# Altium schematic symbol library LibMoritz.SchLib: 10 symbols
Pins are listed as number, name and electrical type; pins without a type are passive.

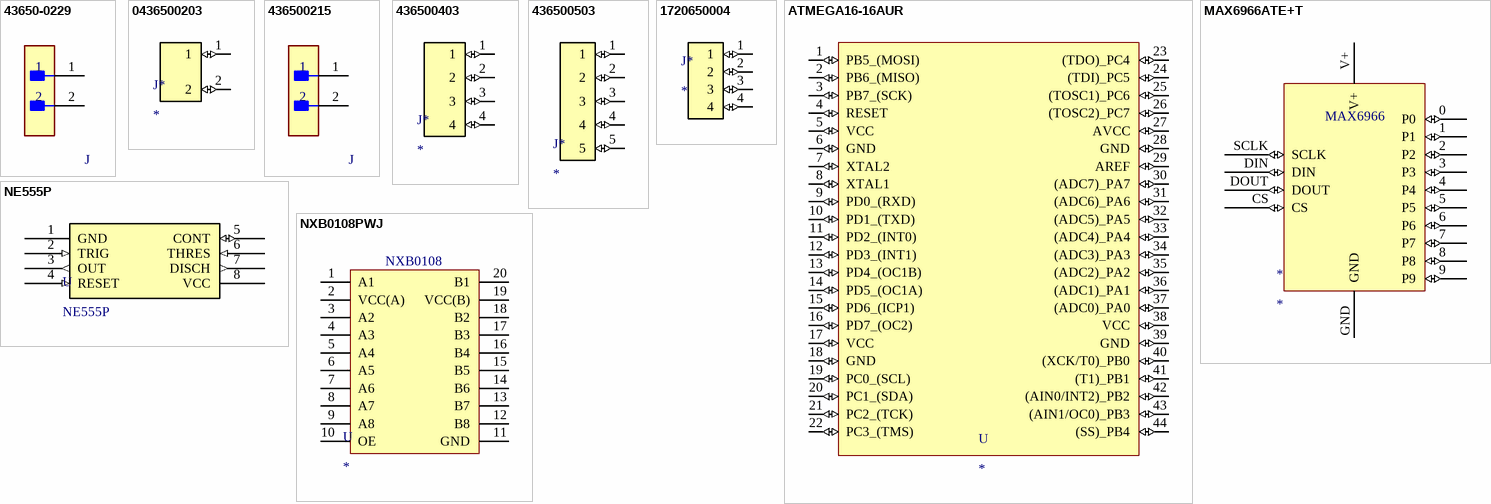
[diagram p0: symbols 43650-0229 to NXB0108PWJ]

## 43650-0229
designator J  (value not drawn)
Micro-Fit 3.0 Vertical Header, 3.00mm Pitch, Single Row, 2 Circuits; ComponentLink1Description: Molex; ComponentLink1URL: https://www.molex.com/molex/products/part-detail/pcb_headers/0436500229
footprint 436500229 (Micro-Fit 3.0 Vertical Header, 3.00mm Pitch, Single Row, 2 Circuits)
pins: 1, 2

## 0436500203
designator J*
Micro-Fit 3.0 Right-Angle Header, 3.00mm Pitch, Single Row, 2 Circuits, with PCB Press-fit Metal Retention Clip, Tin, Glow-Wire Capable, Black; ComponentLink1Description: Molex; ComponentLink1URL: https://www.molex.com/molex/products/part-detail/pcb_headers/0436500203
footprint 0436500203 (Micro-Fit 3.0 Right-Angle Header, 3.00mm Pitch, Single Row, 2 Circuits, with PCB Press-fit Metal Retention Clip, Tin, Glow-Wire Capable, Black)
pins: 1 (io), 2 (io)

## 436500215
designator J  (value not drawn)
Micro-Fit 3.0 Vertical Header, 3.00mm Pitch, Single Row, 2 Circuits
footprint 436500215 (Micro-Fit 3.0 Vertical Header, 3.00mm Pitch, Single Row, 2 Circuits)
pins: 1, 2

## 436500403
designator J*
Micro-Fit 3.0 Right-Angle Header, 3.00mm Pitch, Single Row, 4 Circuits, with PCB Press-fit Metal Retention Clip, Tin, Glow-Wire Capable, Black; ComponentLink1Description: Molex; ComponentLink1URL: https://www.molex.com/molex/products/part-detail/pcb_headers/0436500403
footprint 436500403 (Micro-Fit 3.0 Right-Angle Header, 3.00mm Pitch, Single Row, 4 Circuits, with PCB Press-fit Metal Retention Clip, Tin, Glow-Wire Capable, Black)
pins: 1 (io), 2 (io), 3 (io), 4 (io)

## 436500503
designator J*
Micro-Fit 3.0 Right-Angle Header, 3.00mm Pitch, Single Row, 5 Circuits, with PCB Press-fit Metal Retention Clip, Tin, Glow-Wire Capable, Black; ComponentLink1Description: Molex; ComponentLink1URL: https://www.molex.com/molex/products/part-detail/pcb_headers/0436500503
footprint 436500503 (Micro-Fit 3.0 Right-Angle Header, 3.00mm Pitch, Single Row, 5 Circuits, with PCB Press-fit Metal Retention Clip, Tin, Glow-Wire Capable, Black)
pins: 1 (io), 2 (io), 3 (io), 4 (io), 5 (io)

## 1720650004
designator J*
Mega-Fit Vertical Header, Through Hole, 5.70mm Pitch, Dual Row, 4 Circuits, 0.38µm
footprint 1720650004 (Mega-Fit Vertical Header, Through Hole, 5.70mm Pitch, Dual Row, 4 Circuits, 0.38µm)
pins: 1 (io), 2 (io), 3 (io), 4 (io)

## ATMEGA16-16AUR
designator U
8-Bit Mikrocontroller - MCU AVR,128KB FLASH 4KB EE 4KB SRAM; ComponentLink1Description: New link; ComponentLink1URL: https://www.mouser.de/ProductDetail/Microchip-Technology-Atmel/ATMEGA16-16AUR?qs=%2Fha2pyFaduj5hgh1nWqOQnHgnv0222QsiYiiu8FrUjcnkwja9qu%2Ftg%3D%3D
footprint ATMEGA16-16AUR - duplicate (8-Bit Mikrocontroller - MCU AVR,128KB FLASH 4KB EE 4KB SRAM)
pins: 1 PB5_(MOSI) (io), 2 PB6_(MISO) (io), 3 PB7_(SCK) (io), 4 RESET (io), 5 VCC (io), 6 GND (io), 7 XTAL2 (io), 8 XTAL1 (io), 9 PD0_(RXD) (io), 10 PD1_(TXD) (io), 11 PD2_(INT0) (io), 12 PD3_(INT1) (io), 13 PD4_(OC1B) (io), 14 PD5_(OC1A) (io), 15 PD6_(ICP1) (io), 16 PD7_(OC2) (io), 17 VCC (io), 18 GND (io), 19 PC0_(SCL) (io), 20 PC1_(SDA) (io), 21 PC2_(TCK) (io), 22 PC3_(TMS) (io), 23 (TDO)_PC4 (io), 24 (TDI)_PC5 (io), 25 (TOSC1)_PC6 (io), 26 (TOSC2)_PC7 (io), 27 AVCC (io), 28 GND (io), 29 AREF (io), 30 (ADC7)_PA7 (io), 31 (ADC6)_PA6 (io), 32 (ADC5)_PA5 (io), 33 (ADC4)_PA4 (io), 34 (ADC3)_PA3 (io), 35 (ADC2)_PA2 (io), 36 (ADC1)_PA1 (io), 37 (ADC0)_PA0 (io), 38 VCC (io), 39 GND (io), 40 (XCK/T0)_PB0 (io), 41 (T1)_PB1 (io), 42 (AIN0/INT2)_PB2 (io), 43 (AIN1/OC0)_PB3 (io), 44 (SS)_PB4 (io)

## MAX6966ATE+T
designator *
LED-Anzeigetreiber 10-Port Constant-Current LED Drivers and I/O Expanders with PWM Intensity Control; ComponentLink1Description: Mouser; ComponentLink1URL: https://www.mouser.de/ProductDetail/Maxim-Integrated/MAX6966ATE%2bT?qs=p6VZ%252BklCkRSYjkBQnMu6WQ%3D%3D
footprint SOP64P600X173-16N (SOP, 16-Leads, Body 4,90x3,90mm, Pitch 0,64mm, IPC Medium Density)
pins: 0 P0 (io), 1 P1 (io), 2 P2 (io), 3 P3 (io), 4 P4 (io), 5 P5 (io), 6 P6 (io), 7 P7 (io), 8 P8 (io), 9 P9 (io), CS (io), DIN (io), DOUT (io), GND, SCLK (io), V+
text: MAX6966

## NE555P
designator U
Zeitgeber
footprint NE555P
pins: 1 GND, 2 TRIG (in), 3 OUT (out), 4 RESET (in), 5 CONT (io), 6 THRES (in), 7 DISCH (out), 8 VCC

## NXB0108PWJ
designator U
Übersetzungsspannungs-Pegel NXB0108PW/SOT360/TSSOP20; ComponentLink1Description: Mouser; ComponentLink1URL: https://www.mouser.de/ProductDetail/Nexperia/NXB0108PWJ?qs=zW32dvEIR3si3k5MvwD%252BMQ%3D%3D
footprint TSOP65P640X110-20N (TSOP, 20-Leads, Body 6,50x4,40mm, Pitch 0,65mm, IPC Medium Density)
pins: 1 A1, 2 VCC(A), 3 A2, 4 A3, 5 A4, 6 A5, 7 A6, 8 A7, 9 A8, 10 OE, 11 GND, 12 B8, 13 B7, 14 B6, 15 B5, 16 B4, 17 B3, 18 B2, 19 VCC(B), 20 B1
text: NXB0108